# Altium footprint library S1M.PcbLib: 2 footprints
Each footprint in its own frame and in the unit in brackets; x right, y up, seen from the top. Pads: shape width x height; smd on the part's side, far side on the other; paste and mask are expansions set on the pad; w line width, h text height; cw(c..) or ccw(c..) is an arc to the next point about the centre after c.
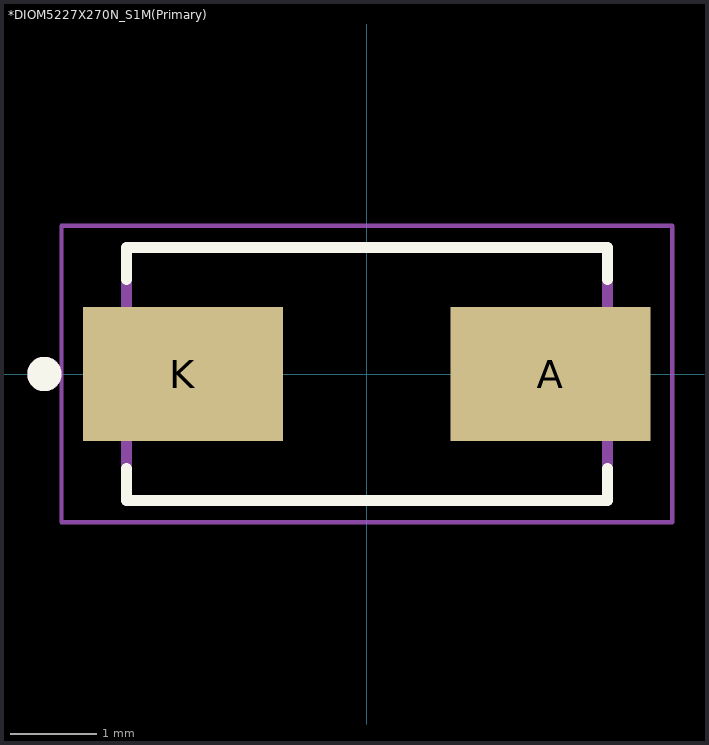
[diagram p0: the footprints below, top view; thin cyan lines are the x and y axes]

## *DIOM5227X270N_S1M(Primary) [mm]
pads (2):
  rect 2.33x1.56 smd: A(2.14,0) K(-2.14,0)
Top Overlay:
  circle w0.2: c-3.755,0 r0.1
  lines w0.127: -2.8,-1.1 -2.8,-1.475 2.8,-1.475 2.8,-1.1 ; -2.8,1.1 -2.8,1.475 2.8,1.475 2.8,1.1
Mechanical 4:
  circle w0.2: c-3.755,0 r0.1
  circle w0.2: c-3.755,0 r0.1
  lines w0.127: -2.8,-1.475 2.8,-1.475 ; -2.8,-1.475 -2.8,1.475 ; -2.8,-1.475 2.8,-1.475 ; -2.8,-1.475 -2.8,1.475 ; -2.8,1.475 2.8,1.475 ; -2.8,1.475 2.8,1.475 ; 2.8,-1.475 2.8,1.475 ; 2.8,-1.475 2.8,1.475
Mechanical 16:
  lines w0.05: -3.555,-1.725 -3.555,1.725 3.555,1.725 3.555,-1.725 -3.555,-1.725

## PCBComponent_1 [mm]